# Altium footprint library PCB1.PcbLib: 6 footprints
Each footprint in its own frame and in the unit in brackets; x right, y up, seen from the top. Pads: shape width x height; smd on the part's side, far side on the other; paste and mask are expansions set on the pad; w line width, h text height; cw(c..) or ccw(c..) is an arc to the next point about the centre after c.
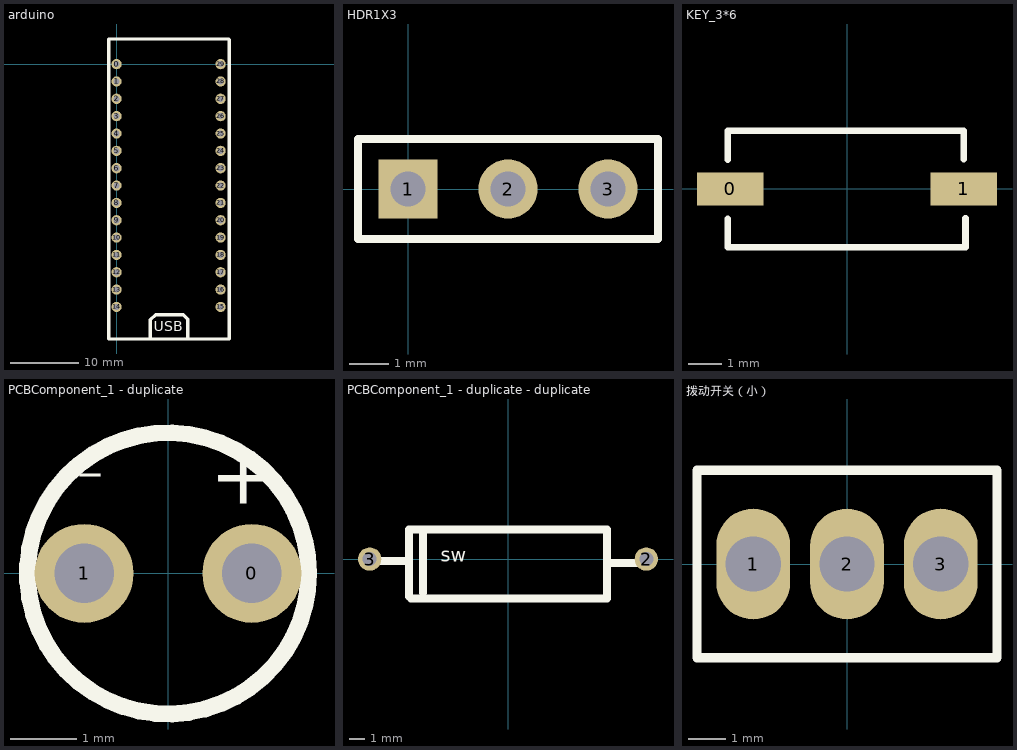
[diagram p0: the footprints below, top view; thin cyan lines are the x and y axes]

## arduino [mm]
pads (30):
  round 1.5 hole 0.9: 0(0,0) 1(0,-2.54) 2(0,-5.08) 3(0,-7.62) 4(0,-10.16) 5(0,-12.7) 6(0,-15.24) 7(0,-17.78) 8(0,-20.32) 9(0,-22.86) 10(0,-25.4) 11(0,-27.94) 12(0,-30.48) 13(0,-33.02) 14(0,-35.56) 15(15.24,-35.56) 16(15.24,-33.02) 17(15.24,-30.48) 18(15.24,-27.94) 19(15.24,-25.4) 20(15.24,-22.86) 21(15.24,-20.32) 22(15.24,-17.78) 23(15.24,-15.24) 24(15.24,-12.7) 25(15.24,-10.16) 26(15.24,-7.62) 27(15.24,-5.08) 28(15.24,-2.54) 29(15.24,0)
Top Overlay:
  lines w0.508: 4.953,-40.259 4.953,-37.465 5.715,-36.703 9.779,-36.703 10.414,-37.338 10.414,-40.259 ; -1.143,-40.259 -1.143,3.683 16.383,3.683 16.51,3.556 16.51,-40.259 -1.143,-40.259
  text "USB" at 5.461,-39.624 h2.54

## HDR1X3 [mm]
pads (3):
  rect 1.5x1.5 hole 0.9: 1(0,0)
  round 1.5 hole 0.9: 2(2.54,0) 3(5.08,0)
Top Overlay:
  lines w0.2: -1.27,-1.27 -1.27,1.27 6.35,1.27 6.35,-1.27 -1.27,-1.27

## KEY_3*6 [mm]
pads (2):
  rect 2x1 smd: 0(-3.5,0) 1(3.5,0)
Top Overlay:
  lines w0.2: -3.581,-1.753 -3.581,-0.889 ; -3.581,-1.75 3.556,-1.75 3.556,-0.877 ; -3.581,0.877 -3.581,1.75 3.505,1.75 3.505,1.372 3.505,0.889

## PCBComponent_1 - duplicate [mm]
pads (2):
  round 1.5 hole 0.9: 0(1.27,0) 1(-1.27,0)
Top Overlay:
  circle w0.254: c0,0 r2.129
  text "-" at -1.397,0.889 h1.52
  text "+" at 0.635,0.762 h1.52

## PCBComponent_1 - duplicate - duplicate [mm]
pads (2):
  round 1.5 hole 0.9: 2(8.89,0) 3(-8.89,0)
Top Overlay:
  lines w0.508: -8.128,-0.127 -6.477,-0.127 ; -5.461,-2.159 -5.461,1.905 ; 6.35,-0.254 8.255,-0.254 ; -6.35,-2.413 -6.35,1.905 6.35,1.905 6.35,-2.54 -6.223,-2.54 -6.35,-2.413
  text "sw" at -4.318,-0.508 h1.52

## 拨动开关（小） [mm]
pads (3):
  oval 2x3 hole 1.5: 1(-2.54,0) 2(0,0) 3(2.54,0)
Top Overlay:
  lines w0.254: -4.064,-2.54 4.064,-2.54 4.064,2.54 -4.064,2.54 -4.064,-2.54